# Altium footprint library Passive.PcbLib: 235 footprints (part 7 of 15)
Each footprint in its own frame and in the unit in brackets; x right, y up, seen from the top. Pads: shape width x height; smd on the part's side, far side on the other; paste and mask are expansions set on the pad; w line width, h text height; cw(c..) or ccw(c..) is an arc to the next point about the centre after c.
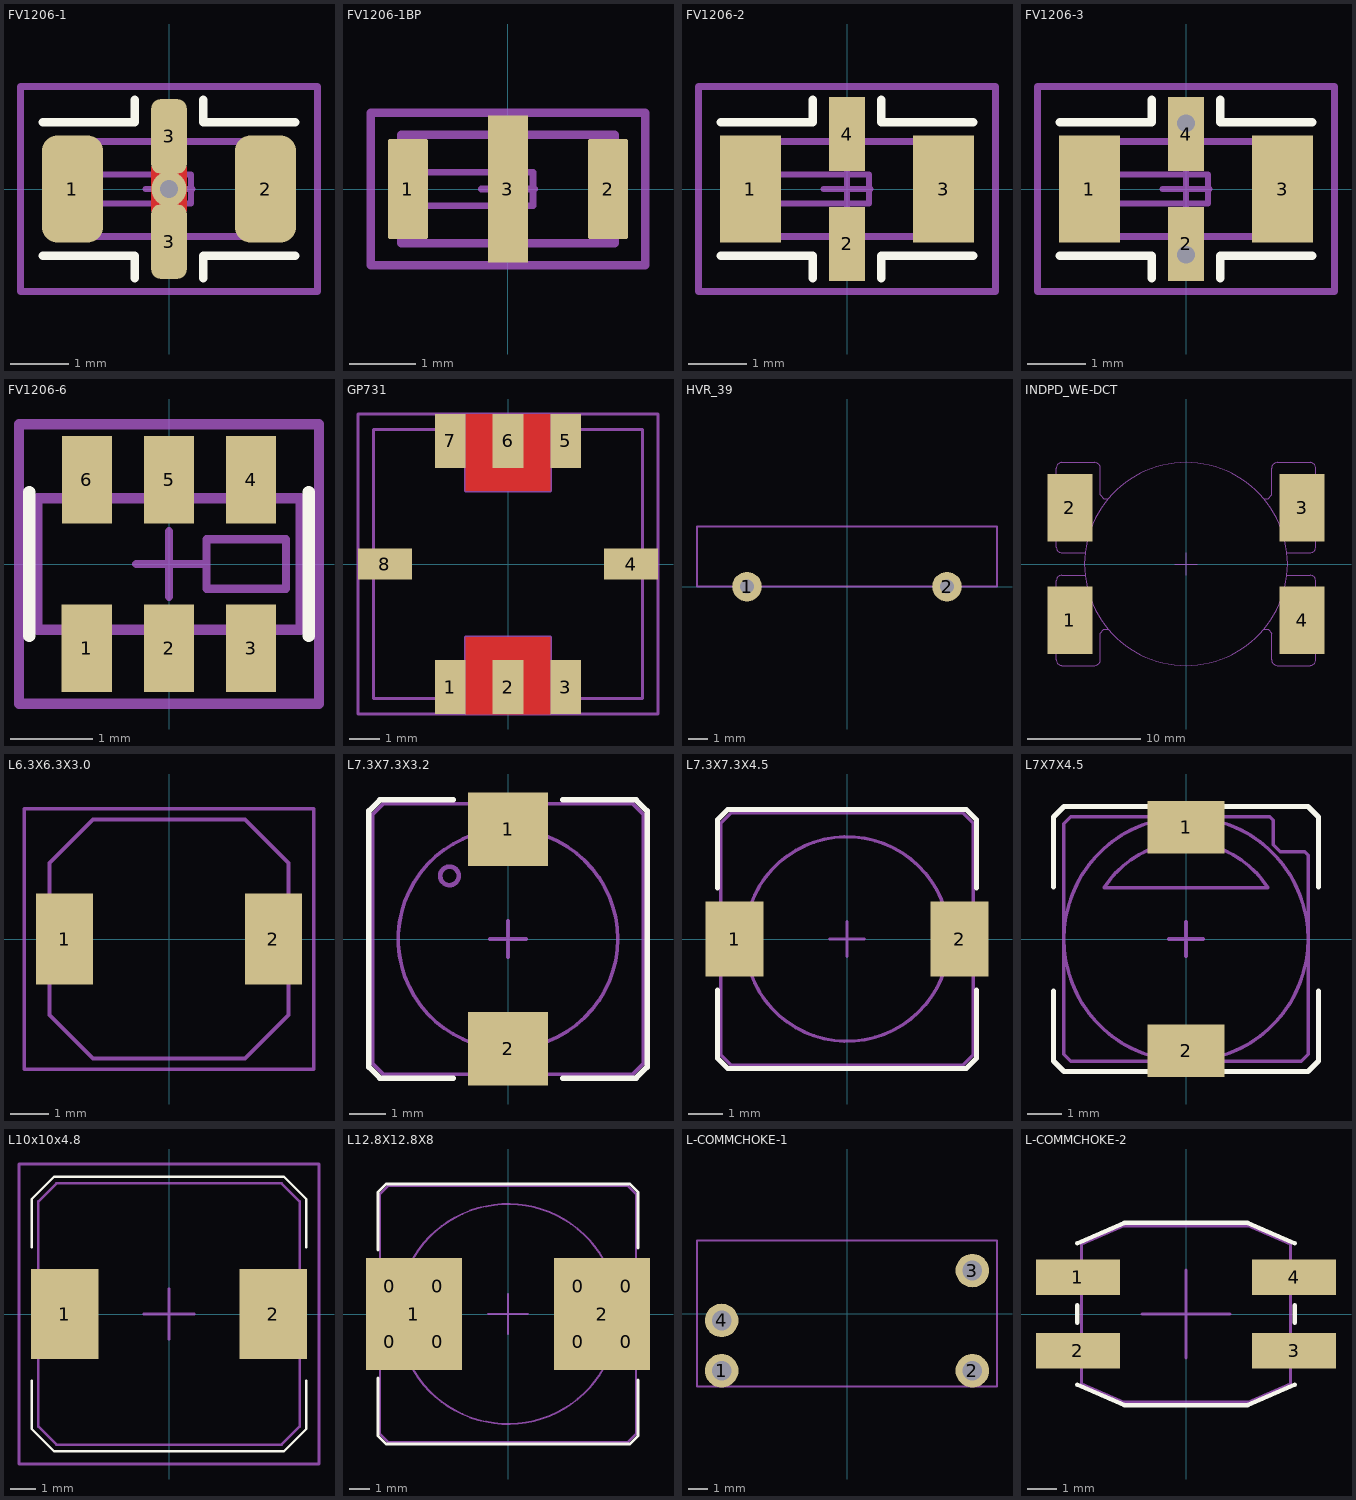
[diagram p6: the footprints below, top view; thin cyan lines are the x and y axes]

## FV1206-1 [mil] "Filter chip 1206 4 pad"
height 37
pads (4):
  rrect50% 41x72 smd: 1(-65,0) 2(65,0)
  rrect50% 24x50 smd: 3(0,-35.43) 3(0,35.43)
via 0,0 diameter 23.62 hole 11.81
Top Layer:
  rectangle: -12,-15 12,15
Top Overlay:
  lines w5.91: -85,-45 -23,-45 -23,-60 ; -85,45 -23,45 -23,60 ; 23,-60 23,-45 85,-45 ; 23,60 23,45 85,45
Mechanical 13:
  lines w4: -54.5,-9.84 -54.5,9.84 14.76,9.84 14.76,-9.84 -54.5,-9.84
  lines w5: -63,-32 63,-32 63,32 -63,32 -63,-32
Mechanical 15:
  lines w4: -15.75,0 15.75,0 ; 0,-15.75 0,15.75
  lines w5: -100,-69 -100,69 100,69 100,-69 -100,-69
3D body: height 39.57, standoff 39.37, extent -54.5,-9.84 14.76,9.84
3D body: height 39.37, standoff 0, extent -15.75,26.68 15.75,32
3D body: height 39.37, standoff 0, extent -15.75,-32 15.75,-26.68
3D body: height 39.37, standoff 0, extent -63,-32 -54.5,32
3D body: height 39.37, standoff 0, extent -54.5,-32 54.5,32
3D body: height 39.37, standoff 0, extent 54.5,-32 63,32

## FV1206-1BP [mm] "Filter chip 1206 4 pad"
height 0.94
pads (3):
  rrect10% 0.6x1.5 smd: 1(-1.5,0) 2(1.5,0)
  rect 0.6x2.2 smd: 3(0,0)
Mechanical 13:
  lines w0.102: -1.384,-0.25 0.375,-0.25 0.375,0.25 -1.384,0.25 -1.384,-0.25
  lines w0.127: -1.6,-0.813 -1.6,0.813 1.6,0.813 1.6,-0.813 -1.6,-0.813
Mechanical 15:
  lines w0.102: -0.4,0 0.4,0 ; 0,-0.4 0,0.4
  lines w0.127: -2.057,-1.143 2.057,-1.143 2.057,1.143 -2.057,1.143 -2.057,-1.143
3D body: height 1, standoff 0, extent 1.384,-0.813 1.6,0.813
3D body: height 1, standoff 0, extent -1.384,-0.813 1.384,0.813
3D body: height 1, standoff 0, extent -1.6,-0.813 -1.384,0.813
3D body: height 1, standoff 0, extent -0.4,-0.813 0.4,-0.678
3D body: height 1, standoff 0, extent -0.4,0.678 0.4,0.813
3D body: height 1, standoff 1, extent -1.384,-0.25 0.375,0.25

## FV1206-2 [mil] "Filter chip 1206 4 pad No vias"
height 37
pads (4):
  rect 41x72 smd: 1(-65,0) 3(65,0)
  rect 24x50 smd: 2(0,-37) 4(0,37)
Top Overlay:
  lines w5.91: -85,-45 -23,-45 -23,-60 ; -85,45 -23,45 -23,60 ; 23,-60 23,-45 85,-45 ; 23,60 23,45 85,45
Mechanical 13:
  lines w4: -54.5,-9.84 -54.5,9.84 14.76,9.84 14.76,-9.84 -54.5,-9.84
  lines w5: -63,-32 63,-32 63,32 -63,32 -63,-32
Mechanical 15:
  lines w4: -15.75,0 15.75,0 ; 0,-15.75 0,15.75
  lines w5: -100,-69 -100,69 100,69 100,-69 -100,-69
3D body: height 39.57, standoff 39.37, extent -54.5,-9.84 14.76,9.84
3D body: height 39.37, standoff 0, extent -15.75,26.68 15.75,32
3D body: height 39.37, standoff 0, extent -15.75,-32 15.75,-26.68
3D body: height 39.37, standoff 0, extent -63,-32 -54.5,32
3D body: height 39.37, standoff 0, extent -54.5,-32 54.5,32
3D body: height 39.37, standoff 0, extent 54.5,-32 63,32

## FV1206-3 [mil] "Filter chip 1206 4 pad"
height 37
pads (4):
  rect 41x72 smd: 1(-65,0) 3(65,0)
  rect 24x50 smd paste-78.74 mask-78.74: 2(0,-37) 4(0,37)
via 0,-44.29 diameter 23.62 hole 11.81
via 0,44.29 diameter 23.62 hole 11.81
Top Overlay:
  lines w5.91: -85,-45 -23,-45 -23,-60 ; -85,45 -23,45 -23,60 ; 23,-60 23,-45 85,-45 ; 23,60 23,45 85,45
Top Paste:
  region: 11.81,-12.8 -11.81,-12.8 -11.81,-35.43 -8.86,-35.43 -3.94,-32.48 3.94,-32.48 8.86,-35.43 11.81,-35.43
  region: 11.81,-62.01 -11.81,-62.01 -11.81,-53.15 -8.86,-53.15 -3.94,-56.1 3.94,-56.1 8.86,-53.15 11.81,-53.15
  region: -11.81,62.01 11.81,62.01 11.81,53.15 8.86,53.15 3.94,56.1 -3.94,56.1 -8.86,53.15 -11.81,53.15
  region: -11.81,12.8 11.81,12.8 11.81,35.43 8.86,35.43 3.94,32.48 -3.94,32.48 -8.86,35.43 -11.81,35.43
Top Solder:
  region: -14.76,64.96 0,64.96 0,56.1 -1.16,56.1 -4.61,55.42 -8.52,52.81 -11.13,48.9 -11.81,45.45 -11.81,44.29 -11.81,43.13 -11.13,39.68 -8.52,35.78 -4.61,33.17 -1.16,32.48 0,32.48 1.16,32.48 4.61,33.17 8.52,35.78 11.13,39.68 11.81,43.13 11.81,44.29 11.81,45.45 11.13,48.9 8.52,52.81 4.61,55.42 1.16,56.1 0,56.1 0,64.96 14.76,64.96 14.76,9.84 -14.76,9.84
  region: 14.76,-64.96 0,-64.96 0,-56.1 1.16,-56.1 4.61,-55.42 8.52,-52.81 11.13,-48.9 11.81,-45.45 11.81,-44.29 11.81,-43.13 11.13,-39.68 8.52,-35.78 4.61,-33.17 1.16,-32.48 0,-32.48 -1.16,-32.48 -4.61,-33.17 -8.52,-35.78 -11.13,-39.68 -11.81,-43.13 -11.81,-44.29 -11.81,-45.45 -11.13,-48.9 -8.52,-52.81 -4.61,-55.42 -1.16,-56.1 0,-56.1 0,-64.96 -14.76,-64.96 -14.76,-9.84 14.76,-9.84
Mechanical 13:
  lines w4: -54.5,-9.84 -54.5,9.84 14.76,9.84 14.76,-9.84 -54.5,-9.84
  lines w5: -63,-32 63,-32 63,32 -63,32 -63,-32
Mechanical 15:
  lines w4: -15.75,0 15.75,0 ; 0,-15.75 0,15.75
  lines w5: -100,-69 -100,69 100,69 100,-69 -100,-69
3D body: height 39.57, standoff 39.37, extent -54.5,-9.84 14.76,9.84
3D body: height 39.37, standoff 0, extent -15.75,26.68 15.75,32
3D body: height 39.37, standoff 0, extent -15.75,-32 15.75,-26.68
3D body: height 39.37, standoff 0, extent -63,-32 -54.5,32
3D body: height 39.37, standoff 0, extent -54.5,-32 54.5,32
3D body: height 39.37, standoff 0, extent 54.5,-32 63,32

## FV1206-6 [mm] "Filter chip 1206 6pad"
height 0.94
pads (6):
  rect 0.61x1.067 smd: 1(-1,-1.025) 2(0,-1.025) 3(1,-1.025) 4(1,1.025) 5(0,1.025) 6(-1,1.025)
Top Overlay:
  lines w0.15: -1.7,-0.875 -1.7,0.875 ; 1.7,-0.875 1.7,0.875
Mechanical 13:
  lines w0.1: 0.457,-0.3 0.457,0.3 1.425,0.3 1.425,-0.3 0.457,-0.3
  lines w0.127: -1.6,-0.8 1.6,-0.8 1.6,0.8 -1.6,0.8 -1.6,-0.8
Mechanical 15:
  lines w0.102: -0.4,0 0.4,0 ; 0,-0.4 0,0.4
  lines w0.127: -1.825,-1.7 -1.825,1.7 1.825,1.7 1.825,-1.7 -1.825,-1.7
3D body: height 0.91, standoff 0.9, extent 0.457,-0.3 1.425,0.3
3D body: height 0.9, standoff 0, extent -1.6,-0.8 1.6,0.8
3D body: height 0.91, standoff 0, extent -1.25,-0.825 -0.75,-0.6
3D body: height 0.91, standoff 0, extent -0.25,-0.825 0.25,-0.6
3D body: height 0.91, standoff 0, extent 0.75,-0.825 1.25,-0.6
3D body: height 0.91, standoff 0, extent 0.75,0.6 1.25,0.825
3D body: height 0.91, standoff 0, extent -0.25,0.6 0.25,0.825
3D body: height 0.91, standoff 0, extent -1.25,0.6 -0.75,0.825

## GP731 [mil] "Low Pass Filter 8.9x8.9x2.54mm 8pin"
height 100
pads (8):
  rect 40x70 smd mask+0: 1(-75,-160) 2(0,-160) 3(75,-160) 5(75,160) 6(0,160) 7(-75,160)
  rect 70x40 smd mask+0: 4(160,0) 8(-160,0)
Top Layer:
  pour cut-out: -55,-195 -55,-95 55,-95 55,-195
  pour cut-out: 55,195 55,95 -55,95 -55,195
Mechanical 13:
  lines w3.94: -175,-175 175,-175 175,175 -175,175 -175,-175
Mechanical 15:
  lines w3.94: -55,-195 -55,-95 55,-95 55,-195 ; -55,195 -55,95 55,95 55,195 ; -195,-195 195,-195 195,195 -195,195 -195,-195
3D body: height 100, standoff 20, extent -170,-170 170,170
3D body: height 20, standoff 0, extent -175,-175 175,175

## HVR_39 [mm] "Leaded Resistor case 39"
height 0.4
pads (2):
  round 1.5 hole 0.7: 1(-5.08,0) 2(5.08,0)
Mechanical 13:
  lines w0.102: -7.62,0 -7.62,3.048 7.62,3.048 7.62,0 -7.62,0
3D body: height 1.27, standoff -3.81, extent 4.699,-0.127 5.461,0.127
3D body: height 1.27, standoff -3.81, extent -5.461,-0.127 -4.699,0.127
3D body: height 10.16, standoff 0, extent -7.62,0 7.62,3.048

## INDPD_WE-DCT [mm] "Power inductor 12.5x12.5x60 Dual"
height 6
pads (4):
  rect 4x6 smd: 1(-10.3,-5) 2(-10.3,5) 3(10.3,5) 4(10.3,-5)
Mechanical 13:
  circle w0.1: c0,0 r9
  lines w0.1: -11.5,-7.5 -11.75,-7.5 -11.75,-2.5 -11.5,-2.5 ; -11.5,2.5 -11.75,2.5 -11.75,7.5 -11.5,7.5 ; -8.95,-1 -11,-1 ccw(c-11,-1.5) -11.5,-1.5 -11.5,-8.5 ccw(c-11,-8.5) -11,-9 -8.1,-9 ccw(c-8.1,-8.5) -7.6,-8.5 -7.6,-6.125 -7.275,-5.8 -6.9,-5.8 ; -8.95,1 -11,1 cw(c-11,1.5) -11.5,1.5 -11.5,8.5 cw(c-11,8.5) -11,9 -8.1,9 cw(c-8.1,8.5) -7.6,8.5 -7.6,6.125 -7.275,5.8 -6.9,5.8 ; 6.9,-5.8 7.275,-5.8 7.6,-6.125 7.6,-8.5 ccw(c8.1,-8.5) 8.1,-9 11,-9 ccw(c11,-8.5) 11.5,-8.5 11.5,-1.5 ccw(c11,-1.5) 11,-1 8.95,-1 ; 6.9,5.8 7.275,5.8 7.6,6.125 7.6,8.5 cw(c8.1,8.5) 8.1,9 11,9 cw(c11,8.5) 11.5,8.5 11.5,1.5 cw(c11,1.5) 11,1 8.95,1 ; 11.5,-7.5 11.75,-7.5 11.75,-2.5 11.5,-2.5 ; 11.5,2.5 11.75,2.5 11.75,7.5 11.5,7.5
Mechanical 15:
  lines w0.102: -1,0 1,0 ; 0,-1 0,1
3D body: height 11.07, standoff 0.02, extent -11.75,-9 11.75,9

## L6.3X6.3X3.0 [mm] "SMD inductor 6.3x6.3x3.0mm shielded"
height 3
pads (2):
  rect 1.5x2.4 smd: 1(-2.75,0) 2(2.75,0)
Mechanical 13:
  lines w0.102: -3.15,-2 -3.15,2 -2,3.15 2,3.15 3.15,2 3.15,-2 2,-3.15 -2,-3.15 -3.15,-2
Mechanical 15:
  lines w0.102: -3.81,-3.429 -3.81,3.429 3.81,3.429 3.81,-3.429 -3.81,-3.429
3D body: height 2.8, standoff 0, extent -3.15,-3.15 3.15,3.15
3D body: height 3, standoff 2.8, extent -2.159,-2.159 2.224,2.232

## L7.3X7.3X3.2 [mm] "SMD inductor 7.3x7.3x3.2mm shielded"
height 3.2
pads (2):
  rect 2.2x2 smd: 1(0,3) 2(0,-3)
Top Overlay:
  lines w0.15: -1.5,-3.8 -3.5,-3.8 -3.8,-3.5 -3.8,3.5 -3.5,3.8 -1.5,3.8 ; 1.5,-3.8 3.5,-3.8 3.8,-3.5 3.8,3.5 3.5,3.8 1.5,3.8
Mechanical 13:
  circle w0.127: c-1.6,1.725 r0.254
  circle w0.1: c0,0 r3
  lines w0.102: -3.7,-3.4 -3.4,-3.7 3.4,-3.7 3.7,-3.4 3.7,3.4 3.4,3.7 -3.4,3.7 -3.7,3.4 -3.7,-3.4
Mechanical 15:
  lines w0.102: -0.5,0 0.5,0 ; 0,-0.5 0,0.5
3D body: height 3.35, standoff 3.3, extent -1.854,1.473 -1.346,1.981
3D body: height 3.3, standoff 3.2, extent -3,-3 3,3
3D body: height 3.2, standoff 0, extent -3.7,-3.7 3.7,3.7

## L7.3X7.3X4.5 [mm] "SMD inductor 7.3x7.3x4.5mm shielded"
height 4.5
pads (2):
  rect 1.7x2.2 smd: 1(-3.3,0) 2(3.3,0)
Top Overlay:
  lines w0.15: -3.8,-1.5 -3.8,-3.5 -3.5,-3.8 3.5,-3.8 3.8,-3.5 3.8,-1.5 ; -3.8,1.5 -3.8,3.5 -3.5,3.8 3.5,3.8 3.8,3.5 3.8,1.5
Mechanical 13:
  circle w0.1: c0,0 r3
  lines w0.102: -3.7,-3.4 -3.7,3.4 -3.4,3.7 3.4,3.7 3.7,3.4 3.7,-3.4 3.4,-3.7 -3.4,-3.7 -3.7,-3.4
Mechanical 15:
  lines w0.102: -0.5,0 0.5,0 ; 0,-0.5 0,0.5
3D body: height 4.5, standoff 0, extent -3.7,-3.7 3.7,3.7

## L7X7X4.5 [mm] "SMD inductor 7x7x4.5mm shielded"
height 4.5
pads (2):
  rect 2.2x1.5 smd: 1(0,3.2) 2(0,-3.2)
Top Overlay:
  lines w0.15: -3.8,-1.5 -3.8,-3.5 -3.5,-3.8 3.5,-3.8 3.8,-3.5 3.8,-1.5 ; -3.8,1.5 -3.8,3.5 -3.5,3.8 3.5,3.8 3.8,3.5 3.8,1.5
Mechanical 13:
  circle w0.1: c0,0 r3.5
  lines w0.102: -3.5,-3.3 -3.5,3.3 -3.3,3.5 2.4,3.5 2.5,3.4 2.5,2.7 2.7,2.5 3.4,2.5 3.5,2.4 3.5,-3.3 3.3,-3.5 -3.3,-3.5 -3.5,-3.3 ; -2.345,1.466 cw(c0,0) 2.345,1.466 -2.345,1.466
Mechanical 15:
  lines w0.102: -0.5,0 0.5,0 ; 0,-0.5 0,0.5
3D body: height 1, standoff 0.5, extent 2.176,-3.217 3.222,-2.183
3D body: height 1, standoff 0.5, extent -3.222,2.183 -2.176,3.217
3D body: height 4.6, standoff 4.5, extent -2.345,1.466 2.345,2.775
3D body: height 0.5, standoff 0, extent -3.5,-3.5 3.5,3.5
3D body: height 4.5, standoff 0.5, extent -3.5,-3.5 3.5,3.5

## L10x10x4.8 [mm] "Power inductor 10x10x4.8mm EPCOS"
height 4.8
pads (2):
  rect 2.7x3.6 smd: 1(-4.15,0) 2(4.15,0)
Top Overlay:
  lines w0.102: -5.461,-2.667 -5.461,-4.572 -4.572,-5.461 4.572,-5.461 5.461,-4.572 5.461,-2.667 ; -5.461,2.667 -5.461,4.572 -4.572,5.461 4.572,5.461 5.461,4.572 5.461,2.667
Mechanical 13:
  lines w0.102: -5.2,-4.474 -5.2,-4.477 ; -5.2,-4.477 -4.477,-5.2 4.474,-5.2 4.477,-5.2 5.2,-4.477 5.2,4.474 5.2,4.477 4.477,5.2 -4.474,5.2 -4.477,5.2 -5.2,4.477 -5.2,-4.477
Mechanical 15:
  lines w0.102: -1,0 1,0 ; 0,-1 0,1 ; -5.969,-5.969 5.969,-5.969 5.969,5.969 -5.969,5.969 -5.969,-5.969
3D body: height 4.7, standoff 0, extent -5.2,-5.2 5.2,5.2
3D body: height 4.8, standoff 4.7, extent -3.81,-3.81 3.81,3.81

## L12.8X12.8X8 [mm] "Power inductor 12.8x12.8x8mm EPCOS"
height 8
pads (10):
  rect 2x2.35 on Top Paste: 0(-5.9,-1.4) 0(-5.9,1.4) 0(-3.5,-1.4) 0(-3.5,1.4) 0(3.5,-1.4) 0(3.5,1.4) 0(5.9,-1.4) 0(5.9,1.4)
  rect 4.8x5.6 smd paste-2.54: 1(-4.7,0) 2(4.7,0)
Top Overlay:
  lines w0.15: -6.5,-3.2 -6.5,-6.1 -6.1,-6.5 6.1,-6.5 6.5,-6.1 6.5,-3.3 ; -6.5,3.2 -6.5,6.1 -6.1,6.5 6.1,6.5 6.5,6.1 6.5,3.3
Mechanical 13:
  circle w0.1: c0,0 r5.5
  lines w0.102: -6.4,-6 -6.4,6 -6,6.4 6,6.4 6.4,6 6.4,-6 6,-6.4 -6,-6.4 -6.4,-6
Mechanical 15:
  lines w0.102: -1,0 1,0 ; 0,-1 0,1
3D body: height 8.01, standoff 0, extent -5.5,-5.5 5.5,5.5
3D body: height 8, standoff 0, extent -6.4,-6.4 6.4,6.4

## L-COMMCHOKE-1 [mm] "common mode choke"
height 17.6
pads (4):
  round 1.7 hole 1: 1(-6.35,-2.9) 2(6.35,-2.9) 3(6.35,2.175) 4(-6.35,-0.35)
Mechanical 13:
  lines w0.102: -7.6,-3.7 -7.6,3.7 7.6,3.7 7.6,-3.7 -7.6,-3.7
3D body: height 17.6, standoff 0, extent -7.6,-3.7 7.6,3.7

## L-COMMCHOKE-2 [mm]
pads (4):
  rect 2.85x1.2 smd: 1(-3.675,1.25) 2(-3.675,-1.25) 3(3.675,-1.25) 4(3.675,1.25)
Top Overlay:
  lines w0.15: -3.7,-2.4 -2.1,-3.1 2.1,-3.1 3.7,-2.4 ; -3.7,-0.3 -3.7,0.3 ; -3.7,2.4 -2.1,3.1 2.1,3.1 3.7,2.4 ; 3.7,-0.3 3.7,0.3
Mechanical 13:
  lines w0.102: -3.55,-1.55 -4.5,-1.55 -4.5,-0.95 -3.55,-0.95 ; -3.55,0.95 -4.5,0.95 -4.5,1.55 -3.55,1.55 ; 3.55,-1.55 4.5,-1.55 4.5,-0.95 3.55,-0.95 ; 3.55,0.95 4.5,0.95 4.5,1.55 3.55,1.55 ; -3.55,-2.379 -3.55,2.379 -2.1,3 2.1,3 3.55,2.379 3.55,-2.379 2.1,-3 -2.1,-3 -3.55,-2.379
Mechanical 15:
  lines w0.102: -1.5,0 1.5,0 ; 0,-1.5 0,1.5
3D body: height 0.3, standoff 0, extent -4.5,-1.55 -3,-0.95
3D body: height 0.3, standoff 0, extent 3,-1.55 4.5,-0.95
3D body: height 0.3, standoff 0, extent 3,0.95 4.5,1.55
3D body: height 0.3, standoff 0, extent -4.5,0.95 -3,1.55
3D body: height 5.2, standoff 0.3, extent -3.55,-3 3.55,3